# EAGLE library part LTC4300A-1 (library U-Linear-LTC4300A-1-2-Wire-Bus-Buffer)
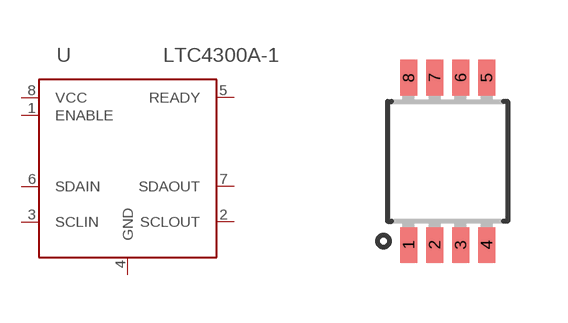
[diagram p0: symbol with the pads of MSOP8; footprint MSOP8]

Designator prefix -

## LTC4300A-1  [MSOP8]
1  ENABLE  in
2  SCLOUT  out
3  SCLIN  in
4  GND  pwr
5  READY  out
6  SDAIN  in
7  SDAOUT  out
8  VCC  pwr

## Footprint MSOP8 (pad centres in mm)
smd 0.42 x 0.889: 1 -0.975,-2.095; 2 -0.325,-2.095; 3 0.325,-2.095; 4 0.975,-2.095; 5 0.975,2.095; 6 0.325,2.095; 7 -0.325,2.095; 8 -0.975,2.095